# Altium footprint library GFZJ 整版.PcbLib: 43 footprints (part 1 of 3)
Each footprint in its own frame and in the unit in brackets; x right, y up, seen from the top. Pads: shape width x height; smd on the part's side, far side on the other; paste and mask are expansions set on the pad; w line width, h text height; cw(c..) or ccw(c..) is an arc to the next point about the centre after c.
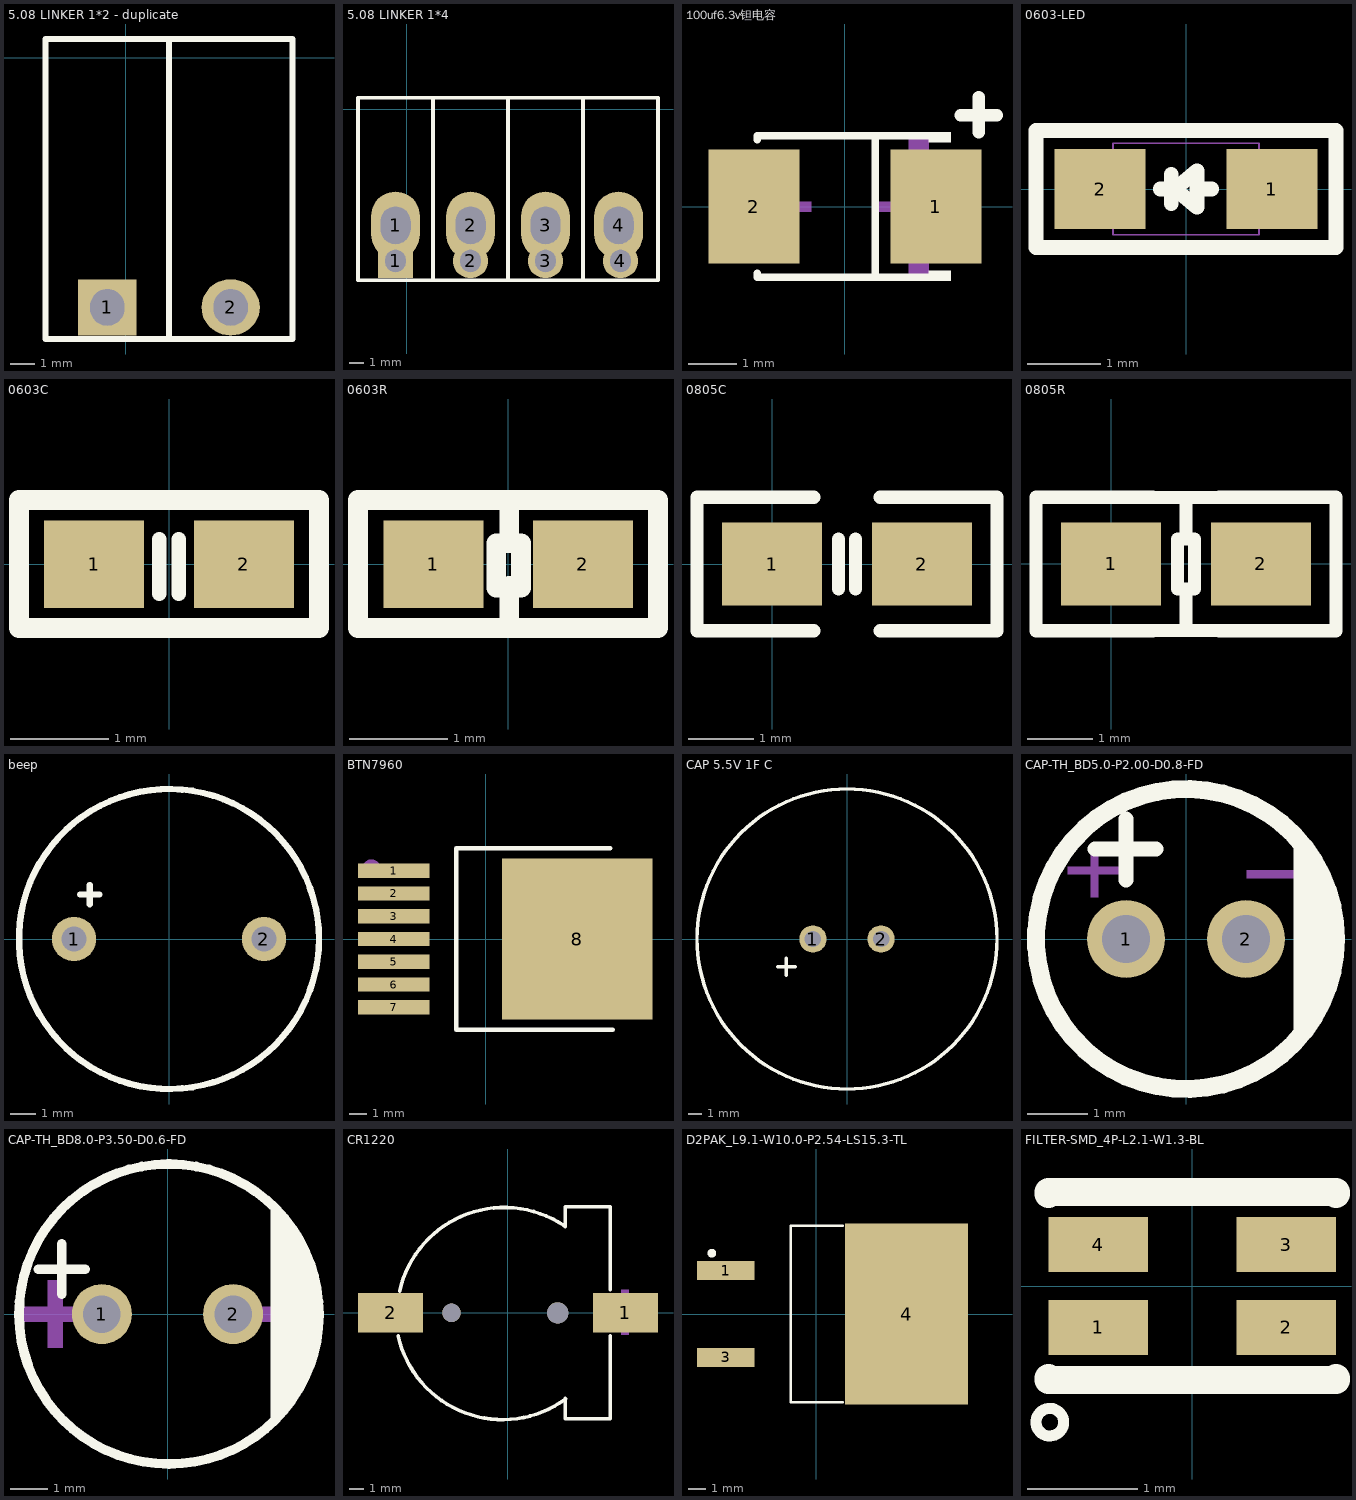
[diagram p0: the footprints below, top view; thin cyan lines are the x and y axes]

## 5.08 LINKER 1*2 - duplicate [mm] "5.08MM间距接线端子"
pads (2):
  rect 2.4x2.3 hole 1.5 slot 1.4 at 0 deg: 1(-0.762,-10.287)
  oval 2.4x2.3 hole 1.5 slot 1.4 at 0 deg: 2(4.318,-10.287)
Top Overlay:
  lines w0.254: 1.778,-11.587 1.778,0.762 ; 1.778,-11.587 6.858,-11.587 6.858,0.762 1.778,0.762 ; 1.778,-11.587 -2.794,-11.587 -3.302,-11.587 -3.302,0.762 1.778,0.762

## 5.08 LINKER 1*4 [mil] "5.08MM间距接线端子"
height 509.06
pads (8):
  oval 130x180 hole 80 slot 100 at 90 deg: 1(-30,-310) 2(170,-310) 3(370,-310) 4(565,-310)
  rect 94.49x90.55 hole 59.06 slot 55.12 at 0 deg: 1(-30,-405)
  oval 94.49x90.55 hole 59.06 slot 55.12 at 0 deg: 2(170,-405) 3(370,-405) 4(570,-405)
Top Overlay:
  lines w10: 70,-456.18 70,30 ; 70,-456.18 270,-456.18 ; 70,-456.18 -110,-456.18 -130,-456.18 -130,30 70,30 ; 70,30 270,30 ; 270,-456.18 270,30 ; 270,-456.18 270,30 ; 270,-456.18 290,-456.18 470,-456.18 ; 270,30 470,30 ; 470,-456.18 670,-456.18 670,30 470,30 ; 470,-456.18 470,30

## 100uf6.3v钽电容 [mm]
height 12.93
pads (2):
  rect 1.9x2.376 smd: 1(1.899,0) 2(-1.899,0)
Top Overlay:
  region: 1.75,1.552 1.75,1.34 2.207,1.34 2.207,1.552
  region: 1.75,-1.552 1.75,-1.34 2.207,-1.34 2.207,-1.552
  lines w0.152: -1.826,-1.391 -1.826,-1.476 1.826,-1.476 ; -1.826,1.391 -1.826,1.476 1.826,1.476 ; 0.635,-1.476 0.635,1.476
  lines w0.254: 2.413,1.905 3.175,1.905 ; 2.794,1.552 2.794,2.286
Mechanical 15:
  region: -1.54,-0.105 -1.54,0.105 -0.7,0.105 -0.7,-0.105
  region: 1.54,-0.105 1.54,0.105 0.7,0.105 0.7,-0.105
  region: 1.225,-0.7 1.225,0.7 1.015,0.7 1.015,-0.7
  region: 1.75,-1.4 1.75,-0.7 1.33,-0.7 1.33,-1.4
  region: 1.75,1.4 1.75,0.7 1.33,0.7 1.33,1.4

## 0603-LED [mil]
height 170.08
pads (2):
  rect 49x43 smd: 1(46.26,0) 2(-46.26,0)
Top Overlay:
  lines w7.87: -13.78,0 -5.91,0 ; -7.87,-7.87 -7.87,7.87 ; 5.91,0 13.78,0 ; -5.91,0 5.91,-9.84 5.91,9.84 -5.91,0 ; -80.71,-31.5 -80.71,31.5 80.71,31.5 80.71,-31.5 -80.71,-31.5
Mechanical 8:
  lines w1: -39.37,-24.61 -39.37,24.61 39.37,24.61 39.37,-24.61 -39.37,-24.61

## 0603C [mil]
height 170.08
pads (2):
  rect 40x35 smd: 1(-29.92,0) 2(29.92,0)
Top Overlay:
  lines w5.91: -3.94,-11.81 -3.94,9.84 ; 3.94,-11.81 3.94,9.84
  lines w7.87: -60,-25.59 -60,25.59 60,25.59 60,-25.59 -60,-25.59

## 0603R [mil]
height 170.08
pads (2):
  rect 40x35 smd: 1(-29.92,0) 2(29.92,0)
Top Overlay:
  lines w7.87: 0.39,-21.65 0.39,-8.66 ; 0.39,9.45 0.39,21.65 ; -60.07,-25.59 59.93,-25.59 59.93,25.59 -60.07,25.59 -60.07,-25.59 ; -4.72,-9.45 -4.72,8.27 5.12,8.27 5.12,-9.45 -4.72,-9.45

## 0805C [mil]
height 509.06
pads (2):
  rect 60x50 smd: 1(0,0) 2(90,0)
Top Overlay:
  lines w7.87: 40,-15 40,15 ; 50,-15 50,15
  lines w8: 25,-40 -45,-40 -45,40 25,40 ; 65,-40 135,-40 135,40 65,40

## 0805R [mil]
height 509.06
pads (2):
  rect 60x50 smd: 1(0,0) 2(90,0)
Top Overlay:
  lines w7.87: 25,-40 65,-40 ; 25,40 65,40 ; 45,-40 45,-15 ; 45,15 45,40 ; 40,-15 50,-15 50,15 40,15 40,-15
  lines w8: 25,-40 -45,-40 -45,40 25,40 ; 65,-40 135,-40 135,40 65,40

## beep [mil]
height 509.06
pads (2):
  round 70 hole 40: 1(-149.61,0) 2(149.61,0)
Top Overlay:
  circle w10: c0,0 r236.22
  lines w10: -140,70 -110,70 ; -125,55 -125,85

## BTN7960 [mm]
height 12.93
pads (8):
  rect 4x0.8 smd: 1(-5.123,3.81) 2(-5.123,2.54) 3(-5.123,1.27) 4(-5.123,0) 5(-5.123,-1.27) 6(-5.123,-2.54) 7(-5.123,-3.81)
  rect 8.4x9 smd: 8(5.123,0)
Top Overlay:
  lines w0.254: 6.958,5.076 -1.649,5.076 -1.649,-5.076 7.085,-5.076
Mechanical 15:
  circle w0.5: c-6.377,3.937 r0.25

## CAP 5.5V 1F C [mm]
height 12.93
pads (2):
  round 2 hole 1.2: 1(-2.5,0) 2(2.5,0)
Top Overlay:
  circle w0.254: c0,0 r11
  lines w0.254: -5.08,-2.032 -3.81,-2.032 ; -4.445,-2.667 -4.445,-1.397

## CAP-TH_BD5.0-P2.00-D0.8-FD [mm] "5*11 （16v 100uf）"
height 12.93
pads (2):
  round 1.3 hole 0.8: 1(-1,0) 2(1,0)
Top Overlay:
  circle w0.3: c0,0 r2.5
  region: 1.794,1.651 1.961,1.491 2.225,1.111 2.407,0.685 2.5,0.231 2.5,-0.231 2.407,-0.685 2.225,-1.111 1.961,-1.491 1.794,-1.651
  lines w0.254: -1.516,1.5 -0.5,1.5 ; -1,0.984 -1,2
Mechanical 15:
  region: 1.016,1.143 1.905,1.143 1.905,1.016 1.016,1.016
  region: -1.588,0.698 -1.588,1.587 -1.461,1.587 -1.46,0.699
  region: -1.969,1.206 -1.08,1.206 -1.08,1.079 -1.969,1.079

## CAP-TH_BD8.0-P3.50-D0.6-FD [mm] "8*12 (100uf 50v) (1000uf 10v)"
height 12.93
pads (2):
  round 1.6 hole 1: 1(-1.75,0) 2(1.75,0)
Top Overlay:
  region: 2.75,-3 2.941,-2.8 3.268,-2.355 3.536,-1.872 3.741,-1.359 3.88,-0.824 3.95,-0.276 3.95,0.276 3.88,0.824 3.741,1.359 3.536,1.872 3.268,2.355 2.941,2.8 2.75,3
  lines w0.254: -3.445,1.2 -2.2,1.2 ; -2.822,0.527 -2.822,1.873 ; 0.003,4 ccw(c0.038,0.001) 0.074,4
Mechanical 15:
  region: 3.5,0.2 2.1,0.2 2.1,-0.2 3.7,-0.2 3.9,-0.2 3.9,0.2
  region: -2.5,0.2 -3.9,0.2 -3.9,-0.2 -2.3,-0.2 -2.1,-0.2 -2.1,0.2
  region: -3.2,0.5 -3.2,-0.9 -2.8,-0.9 -2.8,0.7 -2.8,0.9 -3.2,0.9

## CR1220 [mm]
height 12.93
pads (4):
  rect 4.6x2.8 smd: 1(8.3,0) 2(-8.3,0)
  round 1.3 hole 1.3 unplated: ""(-3.99,0)
  round 1.5 hole 1.5 unplated: ""(3.51,0)
Top Overlay:
  lines w0.254: -7.756,-1.629 ccw(c-0.39,0) 4.077,-6.08 ; -7.657,1.53 cw(c-0.263,-0.127) 3.952,6.17 ; 4.055,-6.051 4.055,-7.493 7.23,-7.493 7.23,-7.366 7.23,-1.631 ; 4.055,6.096 4.055,7.493 7.23,7.493 7.23,1.631
Mechanical 15:
  region: 6.71,0.26 9.87,0.26 9.87,-0.28 6.71,-0.28
  region: 8,-1.54 8,1.62 8.54,1.62 8.54,-1.54
  region: -9.96,0.3 -6.8,0.3 -6.8,-0.24 -9.96,-0.24

## D2PAK_L9.1-W10.0-P2.54-LS15.3-TL [mil] "IRF4905 PMOS"
height 509.06
pads (3):
  rect 132.23x44.65 smd: 1(-208.1,100) 3(-208.1,-100)
  rect 282.7x416 smd: 4(208.1,0)
Top Overlay:
  circle w10: c-240,140 r5
  lines w6: 60.75,-203 -58.3,-203 -58.3,203 60.75,203
Mechanical 15:
  circle w11.81: c-226.45,98.54 r5.91

## FILTER-SMD_4P-L2.1-W1.3-BL [mm]
height 12.93
pads (4):
  rect 0.9x0.5 smd: 1(-0.85,-0.375) 2(0.85,-0.375) 3(0.85,0.375) 4(-0.85,0.375)
Top Overlay:
  circle w0.1: c-1.287,-1.231 r0.125
  lines w0.254: -1.3,-0.831 -1.3,-0.85 1.3,-0.85 1.3,-0.831 ; -1.3,0.831 -1.3,0.85 1.3,0.85 1.3,0.831